# EAGLE library part WD-C2401P (library lcd-wd-c2401p)
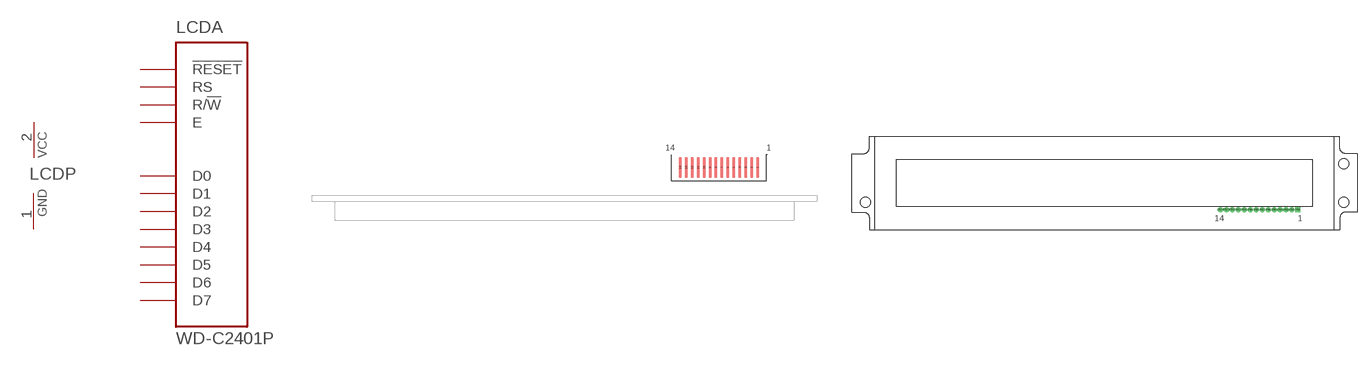
[diagram p0: symbol with the pads of WD-C2401P_EDGE; footprints WD-C2401P_EDGE, WD-C2401P_CONN]

Designator prefix LCD; gates A=WD-C2401P P=PWRGND

## WD-C2401P  [WD-C2401P_EDGE]
1  P:GND  pwr
2  P:VCC  pwr
3  A:!RESET  in
4  A:RS  in
5  A:R/!W  in
6  A:E  in
7  A:D0
8  A:D1
9  A:D2
10  A:D3
11  A:D4
12  A:D5
13  A:D6
14  A:D7

## WD-C2401PH  [WD-C2401P_CONN]
P$1  P:GND  pwr
P$2  P:VCC  pwr
P$3  A:!RESET  in
P$4  A:RS  in
P$5  A:R/!W  in
P$6  A:E  in
P$7  A:D0
P$8  A:D1
P$9  A:D2
P$10  A:D3
P$11  A:D4
P$12  A:D5
P$13  A:D6
P$14  A:D7

## Footprint WD-C2401P_EDGE (pad centres in mm)
WD-C2401P PCB Footprint
smd 0.635 x 4.445: 1 41.275,-2.235; 2 40.005,-2.235; 3 38.735,-2.235; 4 37.465,-2.235; 5 36.195,-2.235; 6 34.925,-2.235; 7 33.655,-2.235; 8 32.385,-2.235; 9 31.115,-2.235; 10 29.845,-2.235; 11 28.575,-2.235; 12 27.305,-2.235; 13 26.035,-2.235; 14 24.765,-2.235

## Footprint WD-C2401P_CONN (pad centres in mm)
drill 0.584 square: P$1 41.275,-5.715
drill 0.584: P$2 40.005,-5.715; P$3 38.735,-5.715; P$4 37.465,-5.715; P$5 36.195,-5.715; P$6 34.925,-5.715; P$7 33.655,-5.715; P$8 32.385,-5.715; P$9 31.115,-5.715; P$10 29.845,-5.715; P$11 28.575,-5.715; P$12 27.305,-5.715; P$13 26.035,-5.715; P$14 24.765,-5.715